# Altium schematic symbol library SnapEDAsch.SchLib: 1 symbol
Pins are listed as number, name and electrical type; pins without a type are passive.

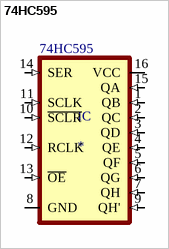
[diagram p0: symbol 74HC595]

## 74HC595
designator IC
Shift Shift Register 1 Elemento 8 Bit 16-TSSOP; MP: 74HC595; MF: Nexperia USA; Value: *; SnapEDA_Link: https://www.snapeda.com/parts/74HC595/Nexperia%20USA%20Inc./view-part/2886108/?ref=snap; Availability: Unavailable; Package: TSSOP-16 ON Semiconductor; Price: None
footprint SO16
pins: 1 QB (in), 2 QC (in), 3 QD (in), 4 QE (in), 5 QF (in), 6 QG (in), 7 QH (in), 8 GND (power), 9 QH' (in), 10 ~{SCLR} (in), 11 SCLK (in), 12 RCLK (in), 13 ~{OE} (in), 14 SER (in), 15 QA (in), 16 VCC (power)